# Altium schematic symbol library MCS0402MD1002BE100.SchLib: 1 symbol
Pins are listed as number, name and electrical type; pins without a type are passive.

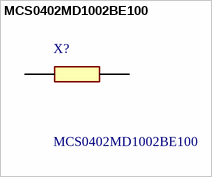
[diagram p0: symbol MCS0402MD1002BE100]

## MCS0402MD1002BE100
designator X?
Thin Film Resistors - SMD .063W 10Kohms 0.1% 0402 25ppm Auto; Manufacturer_Name: Vishay; Geometry.Height: 0.37mm; Mouser Part Number: 594-MCS0402MD1002BE1; Mouser Price/Stock: https://www.mouser.co.uk/ProductDetail/Vishay-Beyschlag/MCS0402MD1002BE100?qs=3SvaY9RawMIFge2HspqWnA%3D%3D; Manufacturer_Part_Number: MCS0402MD1002BE100; Datasheet Link: http://www.vishay.com/docs/28705/mcx0x0xpro.pdf
footprint RESC1005X37N
pins: 1, 2